# EAGLE library part OTHERSIDE (library connector)
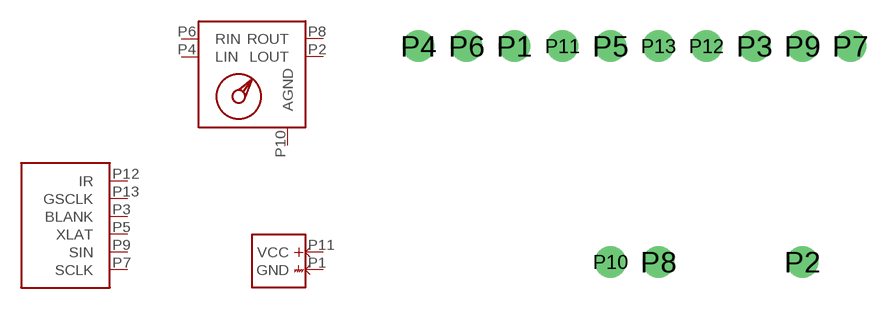
[diagram p1: symbol with the pads of OTHERSIDE; footprint OTHERSIDE]

Designator prefix -; gates G$1=OTHERSIDE G$3=POWER G$2=AUDIO

## OTHERSIDE  [OTHERSIDE]
P1  G$3:GND
P2  G$2:LOUT
P3  G$1:BLANK
P4  G$2:LIN
P5  G$1:XLAT
P6  G$2:RIN
P7  G$1:SCLK
P8  G$2:ROUT
P9  G$1:SIN
P10  G$2:AGND
P11  G$3:VCC
P12  G$1:IR
P13  G$1:GSCLK

## Footprint OTHERSIDE (pad centres in mm)
drill 1 pad 1.676: P1 -13.97,10.16; P2 1.27,-1.27; P3 -1.27,10.16; P4 -19.05,10.16; P5 -8.89,10.16; P6 -16.51,10.16; P7 3.81,10.16; P8 -6.35,-1.27; P9 1.27,10.16; P10 -8.89,-1.27; P11 -11.43,10.16; P12 -3.81,10.16; P13 -6.35,10.16